# EAGLE library part ADF4169 (library ADF4169)
PLL
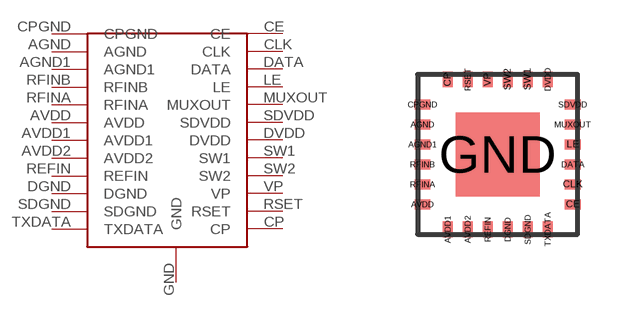
[diagram p0: symbol with the pads of ADF4169; footprint ADF4169]

Designator prefix -

## ADF4169  [ADF4169]
AGND  AGND
AGND1  AGND1
AVDD  AVDD
AVDD1  AVDD1
AVDD2  AVDD2
CE  CE
CLK  CLK
CP  CP
CPGND  CPGND
DATA  DATA
DGND  DGND
DVDD  DVDD
GND  GND
LE  LE
MUXOUT  MUXOUT
REFIN  REFIN
RFINA  RFINA
RFINB  RFINB
RSET  RSET
SDGND  SDGND
SDVDD  SDVDD
SW1  SW1
SW2  SW2
TXDATA  TXDATA
VP  VP

## Footprint ADF4169 (pad centres in mm)
smd 0.399 x 0.25: AGND -1.88,0.75; AGND1 -1.88,0.25; AVDD -1.88,-1.25; CE 1.88,-1.25; CLK 1.88,-0.75; CPGND -1.88,1.25; DATA 1.88,-0.25; LE 1.88,0.25; MUXOUT 1.88,0.75; RFINA -1.88,-0.75; RFINB -1.88,-0.25; SDVDD 1.88,1.25
smd 0.25 x 0.399: AVDD1 -1.25,-1.88; AVDD2 -0.75,-1.88; CP -1.25,1.88; DGND 0.25,-1.88; DVDD 1.25,1.88; REFIN -0.25,-1.88; RSET -0.75,1.88; SDGND 0.75,-1.88; SW1 0.75,1.88; SW2 0.25,1.88; TXDATA 1.25,-1.88; VP -0.25,1.88
smd 2.101 x 2.101: GND 0,0